# Altium schematic symbol library nucleo-64_g474.SchLib: 1 symbol
Pins are listed as number, name and electrical type; pins without a type are passive.

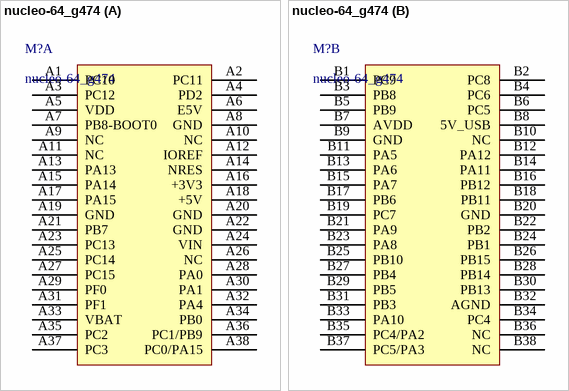
[diagram p0: symbol nucleo-64_g474]

## nucleo-64_g474
designator M?
footprint nucleo-64_g474
part A pins: A1 PC10, A2 PC11, A3 PC12, A4 PD2, A5 VDD, A6 E5V, A7 PB8-BOOT0, A8 GND, A9 NC, A10 NC, A11 NC, A12 IOREF, A13 PA13, A14 NRES, A15 PA14, A16 +3V3, A17 PA15, A18 +5V, A19 GND, A20 GND, A21 PB7, A22 GND, A23 PC13, A24 VIN, A25 PC14, A26 NC, A27 PC15, A28 PA0, A29 PF0, A30 PA1, A31 PF1, A32 PA4, A33 VBAT, A34 PB0, A35 PC2, A36 PC1/PB9, A37 PC3, A38 PC0/PA15
part B pins: B1 PC9, B2 PC8, B3 PB8, B4 PC6, B5 PB9, B6 PC5, B7 AVDD, B8 5V_USB, B9 GND, B10 NC, B11 PA5, B12 PA12, B13 PA6, B14 PA11, B15 PA7, B16 PB12, B17 PB6, B18 PB11, B19 PC7, B20 GND, B21 PA9, B22 PB2, B23 PA8, B24 PB1, B25 PB10, B26 PB15, B27 PB4, B28 PB14, B29 PB5, B30 PB13, B31 PB3, B32 AGND, B33 PA10, B34 PC4, B35 PC4/PA2, B36 NC, B37 PC5/PA3, B38 NC